# Altium schematic symbol library J00_RJ45_WLED.SchLib: 1 symbol
Pins are listed as number, name and electrical type; pins without a type are passive.

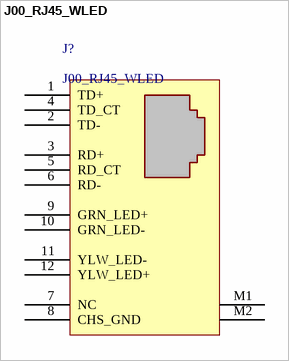
[diagram p0: symbol J00_RJ45_WLED]

## J00_RJ45_WLED
designator J?
pins: 1 TD+, 2 TD-, 3 RD+, 4 TD_CT, 5 RD_CT, 6 RD-, 7 NC, 8 CHS_GND, 9 GRN_LED+, 10 GRN_LED-, 11 YLW_LED-, 12 YLW_LED+, M1, M2